# Altium footprint library SNESConnIDC.PcbLib: 2 footprints
Each footprint in its own frame and in the unit in brackets; x right, y up, seen from the top. Pads: shape width x height; smd on the part's side, far side on the other; paste and mask are expansions set on the pad; w line width, h text height; cw(c..) or ccw(c..) is an arc to the next point about the centre after c.
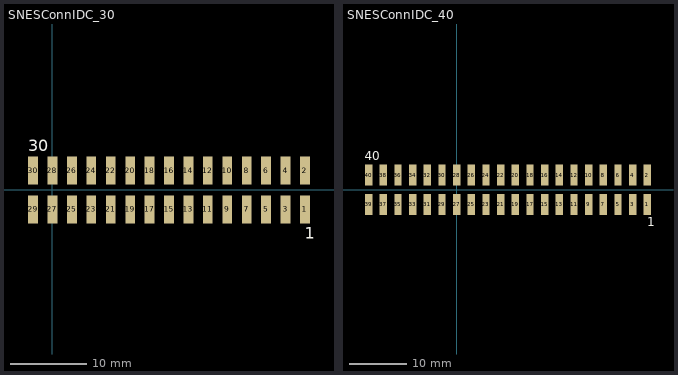
[diagram p0: the footprints below, top view; thin cyan lines are the x and y axes]

## SNESConnIDC_30 [mil]
pads (30):
  rect 50x145 smd: 1(1300,-100) 2(1300,100) 3(1200,-100) 4(1200,100) 5(1100,-100) 6(1100,100) 7(1000,-100) 8(1000,100) 9(900,-100) 10(900,100) 11(800,-100) 12(800,100) 13(700,-100) 14(700,100) 15(600,-100) 16(600,100) 17(500,-100) 18(500,100) 19(400,-100) 20(400,100) 21(300,-100) 22(300,100) 23(200,-100) 24(200,100) 25(100,-100) 26(100,100) 27(0,-100) 28(0,100) 29(-100,-100) 30(-100,100)
Top Overlay:
  text "30" at -125,200 h60
  text "1" at 1300,-250 h60

## SNESConnIDC_40 [mil]
pads (40):
  rect 50x145 smd: 1(1300,-100) 2(1300,100) 3(1200,-100) 4(1200,100) 5(1100,-100) 6(1100,100) 7(1000,-100) 8(1000,100) 9(900,-100) 10(900,100) 11(800,-100) 12(800,100) 13(700,-100) 14(700,100) 15(600,-100) 16(600,100) 17(500,-100) 18(500,100) 19(400,-100) 20(400,100) 21(300,-100) 22(300,100) 23(200,-100) 24(200,100) 25(100,-100) 26(100,100) 27(0,-100) 28(0,100) 29(-100,-100) 30(-100,100) 31(-200,-100) 32(-200,100) 33(-300,-100) 34(-300,100) 35(-400,-100) 36(-400,100) 37(-500,-100) 38(-500,100) 39(-600,-100) 40(-600,100)
Top Overlay:
  text "40" at -625,200 h60
  text "1" at 1300,-250 h60
3D body: height 250, standoff 0, extent -625,-150 1325,150